# EAGLE library part 74AVCH4T245PW,118 (library TAStm32_v4)
74AVCH4T245 - 4-bit dual supply translating transceiver with configurable voltage translation; 3-state@en-us Source: Datasheet <https://componentsearchengine.com/Datasheets/1/74AVCH4T245PW,118.pdf>
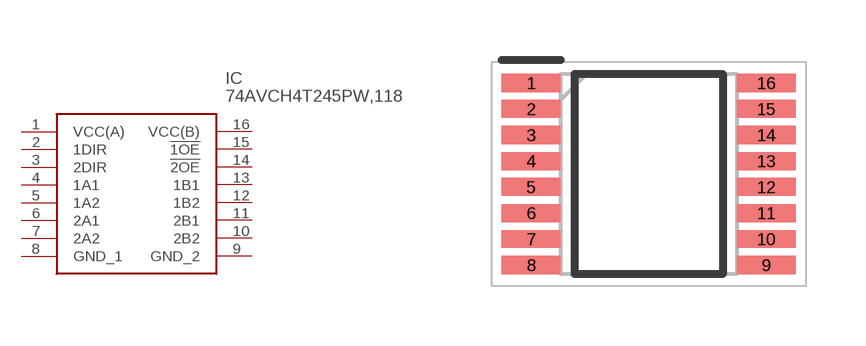
[diagram p3: symbol with the pads of SOP65P640X110-16N; footprint SOP65P640X110-16N]

Designator prefix IC

## 74AVCH4T245PW,118 (DESCRIPTION: 74AVCH4T245 - 4-bit dual supply translating transceiver with configurable voltage translation; 3-state@en-us; HEIGHT: 1.1mm; MANUFACTURER_NAME: Nexperia; MANUFACTURER_PART_NUMBER: 74AVCH4T245PW,118; MOUSER_PART_NUMBER: 771-74AVCH4T245PW118; MOUSER_PRICE-STOCK: http://www.mouser.com/Search/ProductDetail.aspx?qs=jquClx72t9DzXyE70aWLyQ%3d%3d)  [SOP65P640X110-16N]
1  VCC(A)
2  1DIR
3  2DIR
4  1A1
5  1A2
6  2A1
7  2A2
8  GND_1
9  GND_2
10  2B2
11  2B1
12  1B2
13  1B1
14  !2OE
15  !1OE
16  VCC(B)

## Footprint SOP65P640X110-16N (pad centres in mm)
SOT403-1
smd 1.475 x 0.45: 1 -2.938,2.275; 2 -2.938,1.625; 3 -2.938,0.975; 4 -2.938,0.325; 5 -2.938,-0.325; 6 -2.938,-0.975; 7 -2.938,-1.625; 8 -2.938,-2.275; 9 2.938,-2.275; 10 2.938,-1.625; 11 2.938,-0.975; 12 2.938,-0.325; 13 2.938,0.325; 14 2.938,0.975; 15 2.938,1.625; 16 2.938,2.275